# Altium schematic symbol library Discrete.SchLib: 7 symbols
Pins are listed as number, name and electrical type; pins without a type are passive.

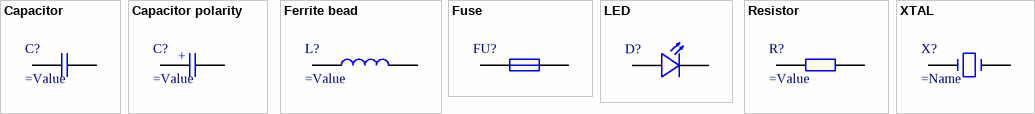
[diagram p0: symbols Capacitor to XTAL]

## Capacitor
designator C?
Capacitor
pins: 1, 2

## Capacitor polarity
designator C?
Capacitor polarity
pins: 1, 2
text: +

## Ferrite bead
designator L?
Ferrite bead
pins: 1, 2

## Fuse
designator FU?
Fuse
pins: 1, 2

## LED
designator D?
LED
pins: 1, 2

## Resistor
designator R?
Resistor
pins: 1, 2

## XTAL
designator X?
XTAL
pins: 1, 2